# Altium footprint library Orient3.PcbLib: 18 footprints (part 1 of 2)
Each footprint in its own frame and in the unit in brackets; x right, y up, seen from the top. Pads: shape width x height; smd on the part's side, far side on the other; paste and mask are expansions set on the pad; w line width, h text height; cw(c..) or ccw(c..) is an arc to the next point about the centre after c.
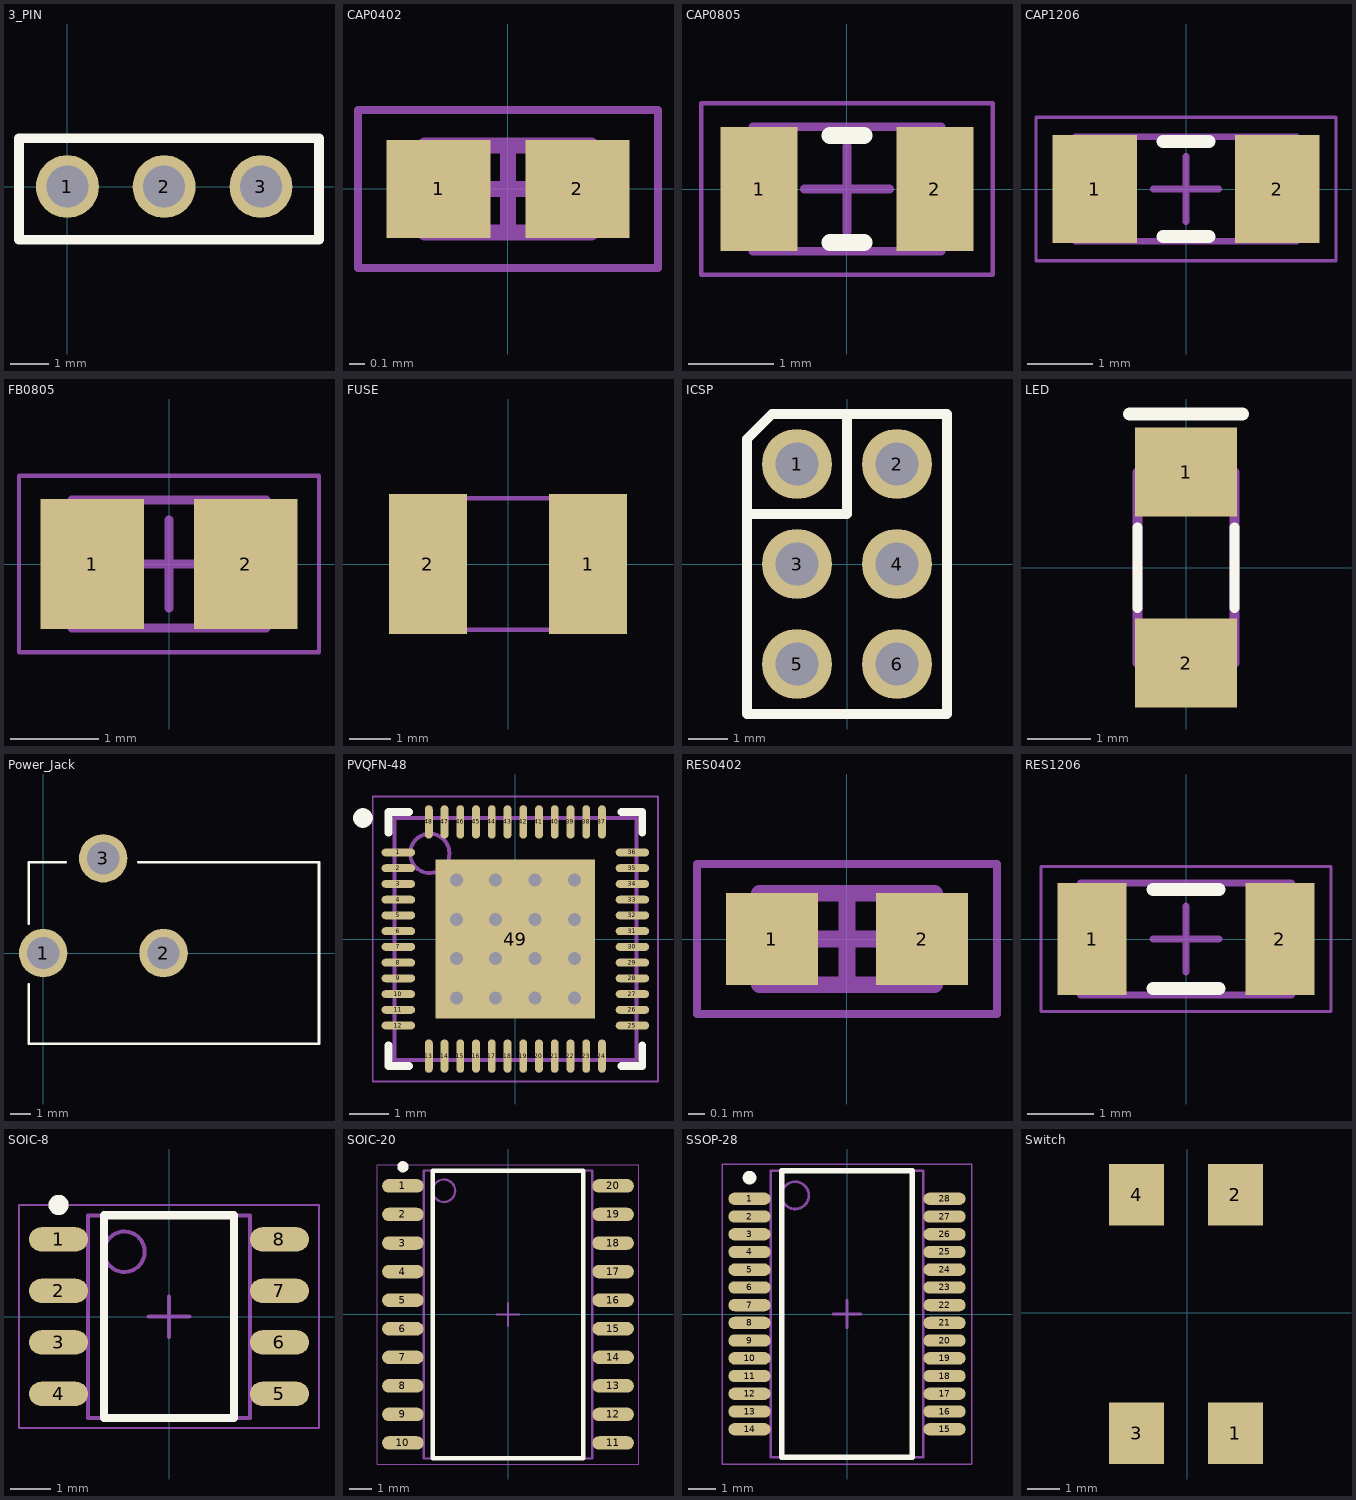
[diagram p0: the footprints below, top view; thin cyan lines are the x and y axes]

## 3_PIN [mm]
pads (3):
  round 1.65 hole 1.1: 1(0,0) 2(2.54,0) 3(5.08,0)
Top Overlay:
  lines w0.254: -1.27,-1.397 -1.27,1.27 6.604,1.27 6.604,-1.397 -1.27,-1.397
3D body "PREC003SAAN-RC.step": height 8.36, standoff -3.03, extent -1.279,-1.27 6.341,1.27

## CAP0402 [mm] "Chip Capacitor, 2-Leads, Body 1.00x0.50mm, IPC Medium Density"
height 0.55
pads (2):
  rect 0.66x0.62 smd: 1(-0.44,0) 2(0.44,0)
Mechanical 13:
  lines w0.1: -0.525,-0.275 0.525,-0.275 0.525,0.275 -0.525,0.275 -0.525,-0.275
Mechanical 15:
  lines w0.05: -0.95,-0.5 0.95,-0.5 0.95,0.5 -0.95,0.5 -0.95,-0.5
  lines w0.1: -0.275,0 0.275,0 ; 0,-0.275 0,0.275
3D body "CAPC1005X06N.step": height 0.55, standoff 0, extent -0.525,-0.275 0.525,0.275

## CAP0805 [mm] "Chip Capacitor, 2-Leads, Body 2.00x1.25mm, IPC Medium Density"
height 1.45
pads (2):
  rect 0.9x1.45 smd: 1(-1.025,0) 2(1.025,0)
Top Overlay:
  lines w0.2: -0.2,-0.625 0.2,-0.625 ; -0.2,0.625 0.2,0.625
Mechanical 13:
  lines w0.1: -1.1,-0.725 1.1,-0.725 1.1,0.725 -1.1,0.725 -1.1,-0.725
Mechanical 15:
  lines w0.05: -1.7,-1 1.7,-1 1.7,1 -1.7,1 -1.7,-1
  lines w0.1: -0.5,0 0.5,0 ; 0,-0.5 0,0.5
3D body "CAPC2012X14N.step": height 1.45, standoff 0, extent -1.1,-0.725 1.1,0.725

## CAP1206 [mm] "Chip Capacitor, 2-Leads, Body 3.20x1.50mm, IPC Medium Density"
height 0.56
pads (2):
  rect 1.3x1.65 smd: 1(-1.4,0) 2(1.4,0)
Top Overlay:
  lines w0.2: -0.35,-0.725 0.35,-0.725 ; -0.35,0.725 0.35,0.725
Mechanical 13:
  lines w0.1: -1.7,-0.8 1.7,-0.8 1.7,0.8 -1.7,0.8 -1.7,-0.8
Mechanical 15:
  lines w0.05: -2.3,-1.1 2.3,-1.1 2.3,1.1 -2.3,1.1 -2.3,-1.1
  lines w0.1: -0.5,0 0.5,0 ; 0,-0.5 0,0.5
3D body "CAPC3215X06N.step": height 0.56, standoff 0, extent -1.7,-0.8 1.7,0.8

## FB0805 [mm] "Chip Inductor, 2-Leads, Body 2.00x1.25mm, IPC Medium Density"
height 1.1
pads (2):
  rect 1.17x1.47 smd: 1(-0.87,0) 2(0.87,0)
Mechanical 13:
  lines w0.1: -1.1,-0.725 1.1,-0.725 1.1,0.725 -1.1,0.725 -1.1,-0.725
Mechanical 15:
  lines w0.05: -1.7,-1 1.7,-1 1.7,1 -1.7,1 -1.7,-1
  lines w0.1: -0.5,0 0.5,0 ; 0,-0.5 0,0.5
3D body "INDC2012X11N.step": height 1.1, standoff 0, extent -1.1,-0.725 1.1,0.725

## FUSE [mm]
pads (2):
  rect 1.9x3.4 smd: 1(1.95,0) 2(-1.95,0)
Mechanical 4:
  region: -1.45,-1.649 -2.398,-1.649 -2.398,1.653 -1.45,1.653
  region: 2.39,-1.649 1.438,-1.649 1.438,1.652 2.39,1.652
  region: -1.45,-1.649 -2.398,-1.649 -2.398,1.653 -1.45,1.653
  region: 2.39,-1.649 1.438,-1.649 1.438,1.652 2.39,1.652
  lines w0.102: -1.473,-1.6 1.473,-1.6 -1.473,-1.6 ; -1.473,1.6 1.448,1.6 -1.473,1.6
3D body "MF-MSMF050-2.step": height 0.68, standoff -0.02, extent -2.28,-1.624 2.27,1.616

## ICSP [mil]
pads (6):
  round 70 hole 43.31: 1(-50,100) 2(50,100) 3(-50,0) 4(50,0) 5(-50,-100) 6(50,-100)
Top Overlay:
  lines w10: -100,50 0,50 0,150 ; -100,-150 -100,125 -75,150 100,150 100,-150 -100,-150
3D body "PREC003DAAN-RC.step": height 329.09, standoff -119.29, extent -98.61,-150.59 98.24,149.41

## LED [mil]
pads (2):
  rect 63x55 smd: 1(0,59) 2(0,-59)
Top Overlay:
  lines w6: -30,-25 -30,25 ; 30,-25 30,25
  lines w7.87: -35,95 35,95
Mechanical 4:
  lines w6: -30,-59 30,-59 ; -30,-59 -30,59 ; -30,-59 30,-59 ; -30,59 30,59 ; -30,59 30,59 ; 30,-59 30,59
3D body "LTST-C150CKT.step": height 43.7, standoff 0, extent -31.5,-62.99 31.49,63

## Power_Jack [mm]
pads (3):
  round 2.4 hole 1.6: 1(0,0) 2(5.969,0) 3(2.977,4.7)
Top Overlay:
  lines w0.127: -0.723,-1.55 -0.723,-4.5 13.677,-4.5 13.677,4.5 4.727,4.5 ; -0.723,1.45 -0.723,4.5 1.127,4.5
  lines w0.254: 5.969,0 5.977,0
3D body "DC Power Jack 5.5mm x 2.1mm.STEP": height 10.68, standoff -3.7, extent -0.465,-4.49 14.155,5.28

## PVQFN-48 [mm] "QFN, 48-Leads, Body 6.00x6.00mm, Pitch 0.40mm, Thermal Pad 2.80x2.80mm, IPC Medium Density"
height 1
pads (49):
  oval 0.85x0.2 smd mask+0.05: 1(-2.975,2.2) 2(-2.975,1.8) 3(-2.975,1.4) 4(-2.975,1) 5(-2.975,0.6) 6(-2.975,0.2) 7(-2.975,-0.2) 8(-2.975,-0.6) 9(-2.975,-1) 10(-2.975,-1.4) 11(-2.975,-1.8) 12(-2.975,-2.2) 25(2.975,-2.2) 26(2.975,-1.8) 27(2.975,-1.4) 28(2.975,-1) 29(2.975,-0.6) 30(2.975,-0.2) 31(2.975,0.2) 32(2.975,0.6) 33(2.975,1) 34(2.975,1.4) 35(2.975,1.8) 36(2.975,2.2)
  oval 0.2x0.85 smd mask+0.05: 13(-2.2,-2.975) 14(-1.8,-2.975) 15(-1.4,-2.975) 16(-1,-2.975) 17(-0.6,-2.975) 18(-0.2,-2.975) 19(0.2,-2.975) 20(0.6,-2.975) 21(1,-2.975) 22(1.4,-2.975) 23(1.8,-2.975) 24(2.2,-2.975) 37(2.2,2.975) 38(1.8,2.975) 39(1.4,2.975) 40(1,2.975) 41(0.6,2.975) 42(0.2,2.975) 43(-0.2,2.975) 44(-0.6,2.975) 45(-1,2.975) 46(-1.4,2.975) 47(-1.8,2.975) 48(-2.2,2.975)
  rect 4.05x4.05 smd: 49(0,0)
via -0.5,0.5 diameter 0.635 hole 0.33
via 0.5,0.5 diameter 0.635 hole 0.33
via -0.5,-0.5 diameter 0.635 hole 0.33
via 0.5,-0.5 diameter 0.635 hole 0.33
via -1.5,0.5 diameter 0.635 hole 0.33
via -1.5,1.5 diameter 0.635 hole 0.33
via -0.5,1.5 diameter 0.635 hole 0.33
via 0.5,1.5 diameter 0.635 hole 0.33
via 1.5,1.5 diameter 0.635 hole 0.33
via 1.5,0.5 diameter 0.635 hole 0.33
via 1.5,-0.5 diameter 0.635 hole 0.33
via -1.5,-0.5 diameter 0.635 hole 0.33
via -1.5,-1.5 diameter 0.635 hole 0.33
via -0.5,-1.5 diameter 0.635 hole 0.33
via 0.5,-1.5 diameter 0.635 hole 0.33
via 1.5,-1.5 diameter 0.635 hole 0.33
Top Overlay:
  circle w0.25: c-3.875,3.075 r0.125
  lines w0.2: -3.225,-2.7 -3.225,-3.225 -2.7,-3.225 ; -3.225,2.7 -3.225,3.225 -2.7,3.225 ; 2.7,-3.225 3.225,-3.225 3.225,-2.7 ; 2.7,3.225 3.225,3.225 3.225,2.7
Mechanical 13:
  circle w0.1: c-2.175,2.175 r0.5
  lines w0.1: -3.075,-3.075 -3.075,3.075 3.075,3.075 3.075,-3.075 -3.075,-3.075
Mechanical 15:
  lines w0.05: -3.625,-3.625 -3.625,3.625 3.625,3.625 3.625,-3.625 -3.625,-3.625
  lines w0.1: -0.5,0 0.5,0 ; 0,-0.5 0,0.5
3D body "QFN40P600X600X100_HS-49N.step": height 1, standoff 0, extent -3.076,-3.076 3.076,3.076

## RES0402 [mm] "Chip Resistor, 2-Leads, Body 1.00x0.50mm, IPC Medium Density"
height 0.4
pads (2):
  rect 0.55x0.55 smd: 1(-0.45,0) 2(0.45,0)
Mechanical 13:
  lines w0.1: -0.525,-0.275 0.525,-0.275 0.525,0.275 -0.525,0.275 -0.525,-0.275
Mechanical 15:
  lines w0.05: -0.9,-0.45 0.9,-0.45 0.9,0.45 -0.9,0.45 -0.9,-0.45
  lines w0.1: -0.275,0 0.275,0 ; 0,-0.275 0,0.275
3D body "RESC1005X04N.step": height 0.4, standoff 0, extent -0.525,-0.275 0.525,0.275

## RES1206 [mm] "Chip Resistor, 2-Leads, Body 3.10x1.60mm, IPC Medium Density"
height 0.65
pads (2):
  rect 1.05x1.7 smd: 1(-1.425,0) 2(1.425,0)
Top Overlay:
  lines w0.2: -0.5,-0.75 0.5,-0.75 ; -0.5,0.75 0.5,0.75
Mechanical 13:
  lines w0.1: -1.6,-0.85 1.6,-0.85 1.6,0.85 -1.6,0.85 -1.6,-0.85
Mechanical 15:
  lines w0.05: -2.2,-1.1 2.2,-1.1 2.2,1.1 -2.2,1.1 -2.2,-1.1
  lines w0.1: -0.5,0 0.5,0 ; 0,-0.5 0,0.5
3D body "RESC3116X06N.step": height 0.65, standoff 0, extent -1.6,-0.85 1.6,0.85

## SOIC-8 [mm] "SOIC, 8-Leads, Body 4.90x3.90mm, Pitch 1.27mm, IPC Medium Density"
height 1.75
pads (8):
  oval 1.45x0.6 smd: 1(-2.725,1.905) 2(-2.725,0.635) 3(-2.725,-0.635) 4(-2.725,-1.905) 5(2.725,-1.905) 6(2.725,-0.635) 7(2.725,0.635) 8(2.725,1.905)
Top Overlay:
  circle w0.25: c-2.725,2.755 r0.125
  lines w0.2: -1.6,-2.5 -1.6,2.5 1.6,2.5 1.6,-2.5 -1.6,-2.5
Mechanical 13:
  circle w0.1: c-1.1,1.6 r0.5
  lines w0.1: -2,-2.5 -2,2.5 2,2.5 2,-2.5 -2,-2.5
Mechanical 15:
  lines w0.05: -3.7,-2.75 -3.7,2.75 3.7,2.75 3.7,-2.75 -3.7,-2.75
  lines w0.1: -0.5,0 0.5,0 ; 0,-0.5 0,0.5
3D body "SOIC127P600X175-8N.step": height 1.75, standoff 0, extent -3,-2.5 3,2.5

## SOIC-20 [mm] "SOIC, 20-Leads, Body 12.80x7.50mm, Pitch 1.27mm, IPC Medium Density"
height 2.65
pads (20):
  oval 1.85x0.6 smd: 1(-4.675,5.715) 2(-4.675,4.445) 3(-4.675,3.175) 4(-4.675,1.905) 5(-4.675,0.635) 6(-4.675,-0.635) 7(-4.675,-1.905) 8(-4.675,-3.175) 9(-4.675,-4.445) 10(-4.675,-5.715) 11(4.675,-5.715) 12(4.675,-4.445) 13(4.675,-3.175) 14(4.675,-1.905) 15(4.675,-0.635) 16(4.675,0.635) 17(4.675,1.905) 18(4.675,3.175) 19(4.675,4.445) 20(4.675,5.715)
Top Overlay:
  circle w0.25: c-4.675,6.565 r0.125
  lines w0.2: -3.35,-6.4 3.35,-6.4 3.35,6.4 -3.35,6.4 -3.35,-6.4
Mechanical 13:
  circle w0.1: c-2.85,5.5 r0.5
  lines w0.1: -3.75,-6.4 3.75,-6.4 3.75,6.4 -3.75,6.4 -3.75,-6.4
Mechanical 15:
  lines w0.05: -5.825,-6.65 5.825,-6.65 5.825,6.65 -5.825,6.65 -5.825,-6.65
  lines w0.1: -0.5,0 0.5,0 ; 0,-0.5 0,0.5
3D body "SOIC127P1030X265-20N.step": height 2.65, standoff 0, extent -5.15,-6.4 5.15,6.4

## SSOP-28 [mm] "SOP, 28-Leads, Body 10.28x5.30mm, Pitch 0.65mm, IPC Medium Density"
height 2
pads (28):
  oval 1.55x0.45 smd mask+0.05: 1(-3.575,4.225) 2(-3.575,3.575) 3(-3.575,2.925) 4(-3.575,2.275) 5(-3.575,1.625) 6(-3.575,0.975) 7(-3.575,0.325) 8(-3.575,-0.325) 9(-3.575,-0.975) 10(-3.575,-1.625) 11(-3.575,-2.275) 12(-3.575,-2.925) 13(-3.575,-3.575) 14(-3.575,-4.225) 15(3.575,-4.225) 16(3.575,-3.575) 17(3.575,-2.925) 18(3.575,-2.275) 19(3.575,-1.625) 20(3.575,-0.975) 21(3.575,-0.325) 22(3.575,0.325) 23(3.575,0.975) 24(3.575,1.625) 25(3.575,2.275) 26(3.575,2.925) 27(3.575,3.575) 28(3.575,4.225)
Top Overlay:
  circle w0.25: c-3.575,5 r0.125
  lines w0.2: -2.4,-5.25 -2.4,5.25 2.4,5.25 2.4,-5.25 -2.4,-5.25
Mechanical 13:
  circle w0.1: c-1.9,4.35 r0.5
  lines w0.1: -2.8,-5.25 -2.8,5.25 2.8,5.25 2.8,-5.25 -2.8,-5.25
Mechanical 15:
  lines w0.05: -4.575,-5.5 -4.575,5.5 4.575,5.5 4.575,-5.5 -4.575,-5.5
  lines w0.1: -0.5,0 0.5,0 ; 0,-0.5 0,0.5
3D body "SOP65P780X200-28N.step": height 2, standoff 0, extent -3.888,-5.25 3.888,5.25

## Switch [mm]
pads (4):
  rect 1.7x1.9 smd: 1(1.479,-3.727) 2(1.479,3.639) 3(-1.569,-3.727) 4(-1.569,3.639)
3D body "TL3305AF160QG.step": height 3.8, standoff 0, extent -2.3,-3.75 2.2,3.75